# Altium footprint library K60-mainboard-v3.1.PcbLib: 108 footprints (part 1 of 7)
Each footprint in its own frame and in the unit in brackets; x right, y up, seen from the top. Pads: shape width x height; smd on the part's side, far side on the other; paste and mask are expansions set on the pad; w line width, h text height; cw(c..) or ccw(c..) is an arc to the next point about the centre after c.
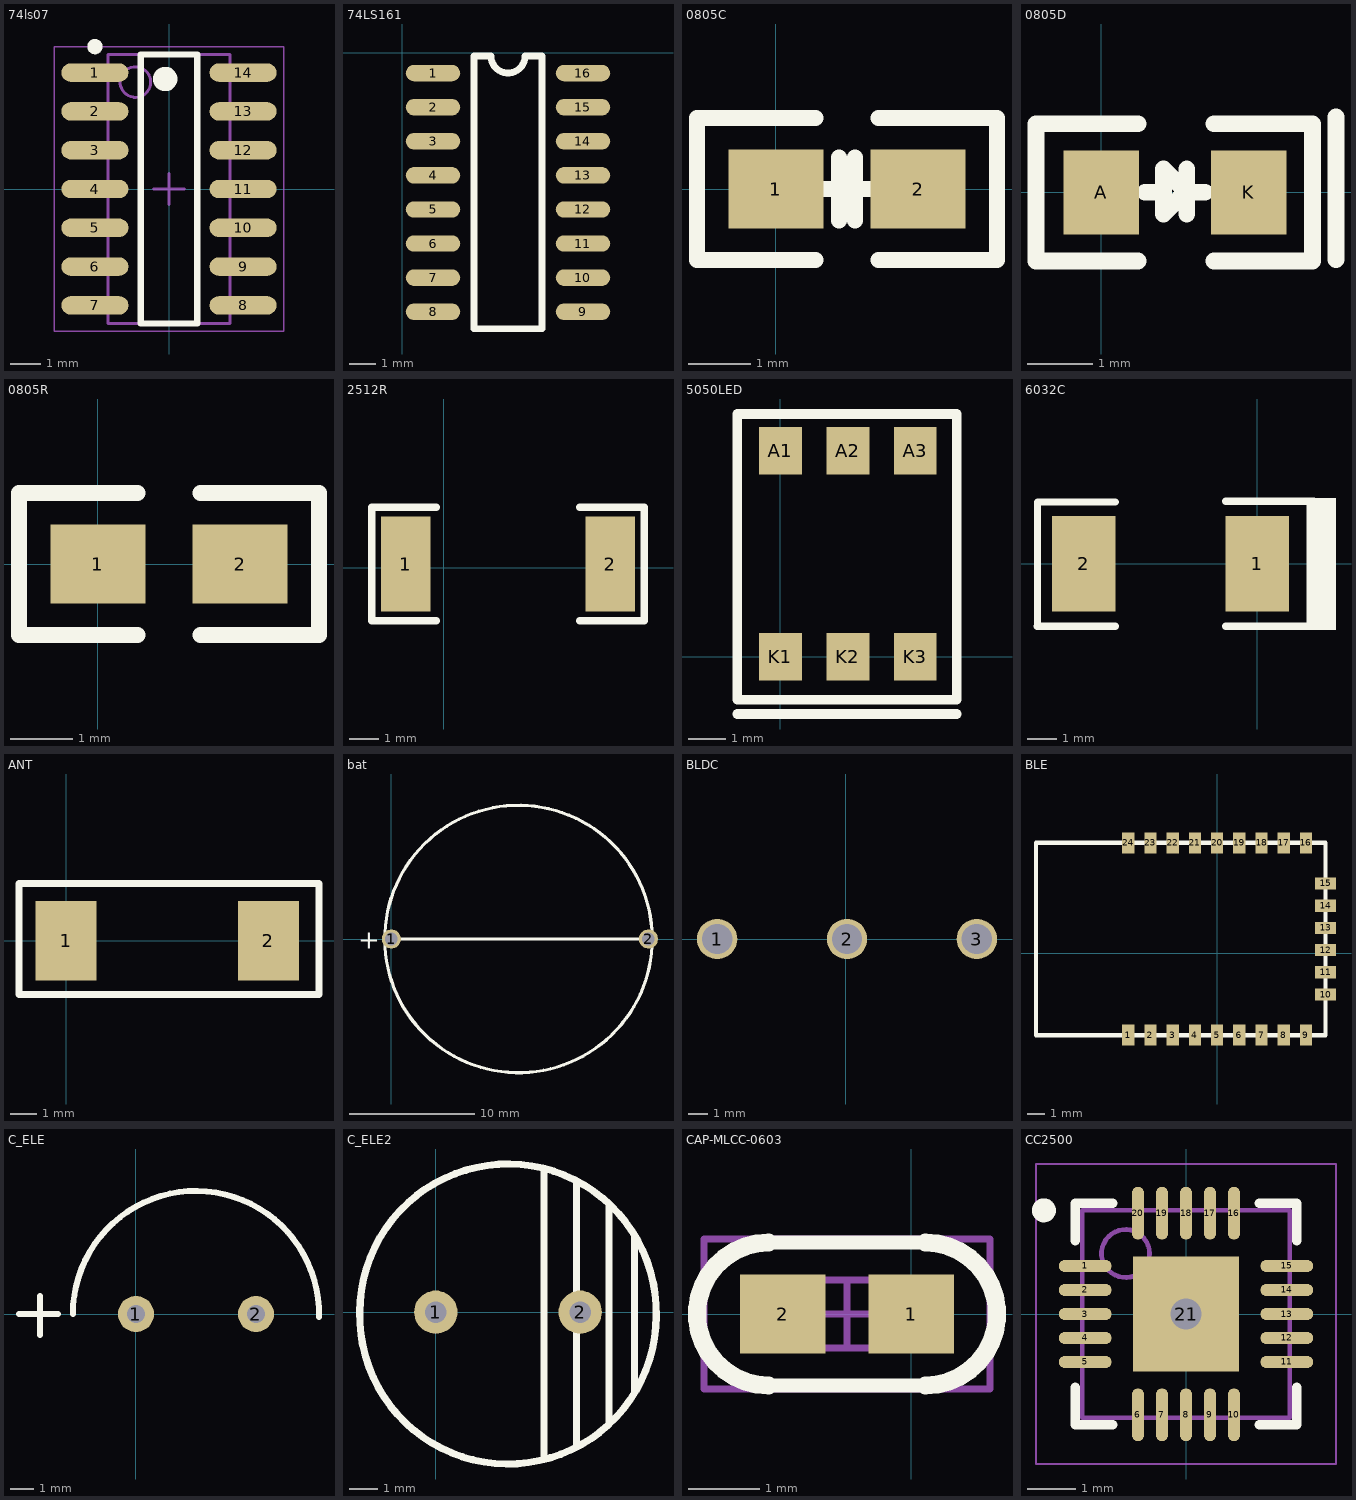
[diagram p0: the footprints below, top view; thin cyan lines are the x and y axes]

## 74ls07 [mm]
height 1.7
pads (14):
  oval 2.2x0.6 smd: 1(-2.425,3.81) 2(-2.425,2.54) 3(-2.425,1.27) 4(-2.425,0) 5(-2.425,-1.27) 6(-2.425,-2.54) 7(-2.425,-3.81) 8(2.425,-3.81) 9(2.425,-2.54) 10(2.425,-1.27) 11(2.425,0) 12(2.425,1.27) 13(2.425,2.54) 14(2.425,3.81)
Top Overlay:
  circle w0.4: c-0.125,3.6 r0.2
  circle w0.25: c-2.425,4.66 r0.125
  lines w0.2: -0.925,-4.4 0.925,-4.4 0.925,4.4 -0.925,4.4 -0.925,-4.4
Mechanical 13:
  circle w0.1: c-1.1,3.5 r0.5
  lines w0.1: -2,-4.4 2,-4.4 2,4.4 -2,4.4 -2,-4.4
Mechanical 15:
  lines w0.05: -3.75,-4.65 3.75,-4.65 3.75,4.65 -3.75,4.65 -3.75,-4.65
  lines w0.1: -0.5,0 0.5,0 ; 0,-0.5 0,0.5
3D body: height 1.7, standoff 0.1, extent -2,-4.4 2,4.4

## 74LS161 [mil]
pads (16):
  oval 80x24 smd: 1(45,-30) 2(45,-80) 3(45,-130) 4(45,-180) 5(45,-230) 6(45,-280) 7(45,-330) 8(45,-380) 9(265,-380) 10(265,-330) 11(265,-280) 12(265,-230) 13(265,-180) 14(265,-130) 15(265,-80) 16(265,-30)
Top Overlay:
  lines w10: 105,-405 205,-405 205,-5 180,-5 cw(c155,-5) 130,-5 105,-5 105,-405

## 0805C [mil]
height 270.08
pads (2):
  rect 60x50 smd: 1(0,0) 2(90,0)
Top Overlay:
  lines w10: 25,-45 -50,-45 -50,45 25,45 ; 30,0 40,0 ; 40,-20 40,20 ; 50,-20 50,20 ; 50,0 60,0 ; 65,-45 140,-45 140,45 65,45

## 0805D [mil]
height 270.08
pads (2):
  rect 45x50 smd: A(0,0) K(88,0)
Top Overlay:
  lines w10: 22,-41 -39,-41 -39,41 22,41 ; 26,0 36,0 ; 51,-13 51,14 ; 62,0 51,0 ; 67,-41 126,-41 126,41 67,41 ; 140,-40 140,45 ; 51,0 50,0 37,-13 37,14 51,0

## 0805R [mil]
height 69.29
pads (2):
  rect 60x50 smd: 1(0,0) 2(90,0)
Top Overlay:
  lines w10: 25,-45 -50,-45 -50,45 25,45 ; 65,-45 140,-45 140,45 65,45

## 2512R [mm]
pads (2):
  rect 1.65x3.2 smd: 1(-1.27,0.127) 2(5.588,0.127)
Top Overlay:
  lines w0.254: -0.254,-1.778 -2.413,-1.778 -2.413,2.032 -0.254,2.032 ; 4.572,-1.778 6.731,-1.778 6.731,2.032 4.572,2.032

## 5050LED [mm]
pads (6):
  rect 1.143x1.27 smd: A1(0,5.5) A2(1.8,5.5) A3(3.6,5.5) K1(0,0) K2(1.8,0) K3(3.6,0)
Top Overlay:
  lines w0.254: -1.143,-1.524 4.699,-1.524 ; -1.143,-1.143 4.699,-1.143 4.699,6.477 -1.143,6.477 -1.143,-1.143

## 6032C [mm]
pads (2):
  rect 2.2x3.3 smd: 1(0,0) 2(-6,0)
Top Overlay:
  rectangle: 1.703,-2.293 2.719,2.277
  lines w0.254: -7.605,-2.159 -4.905,-2.159 ; -7.6,-2.133 -7.6,2.133 -4.9,2.133 ; -1.095,-2.159 1.831,-2.159 ; -1.095,2.159 1.958,2.159

## ANT [mm]
pads (2):
  rect 2.3x3 smd: 1(0,0) 2(7.62,0)
Top Overlay:
  lines w0.254: -1.778,-2.032 -1.778,2.159 -0.508,2.159 9.525,2.159 9.525,-2.032 -1.778,-2.032

## bat [mil]
pads (2):
  round 60 hole 39.37: 1(0,0) 2(808.94,0)
Top Overlay:
  lines w10: 0,0 807.09,0 ; 820.71,5.01 ccw(c400,0) 820.74,0
  text "+" at -105,-30 h60

## BLDC [mil]
pads (3):
  round 80 hole 60: 1(-255,0) 2(2.5,0) 3(260,0)

## BLE [mm]
pads (24):
  rect 0.7x1.2 smd mask+0: 1(-5.08,-4.699) 2(-3.81,-4.699) 3(-2.54,-4.699) 4(-1.27,-4.699) 5(0,-4.699) 6(1.27,-4.699) 7(2.54,-4.699) 8(3.81,-4.699) 9(5.08,-4.699) 16(5.08,6.301) 17(3.81,6.301) 18(2.54,6.301) 19(1.27,6.301) 20(0,6.301) 21(-1.27,6.301) 22(-2.54,6.301) 23(-3.81,6.301) 24(-5.08,6.301)
  rect 1.2x0.7 smd mask+0: 10(6.198,-2.374) 11(6.198,-1.104) 12(6.198,0.166) 13(6.198,1.436) 14(6.198,2.706) 15(6.198,3.976)
Top Overlay:
  lines w0.254: -10.353,-4.699 -10.353,6.301 6.198,6.301 6.198,-4.699 -10.353,-4.699

## C_ELE [mil]
height 787.4
pads (2):
  round 60 hole 30: 1(0,0) 2(200,0)
Top Overlay:
  lines w10: -195,0 -130,0 ; -160,-35 -160,30 ; -105.18,0 cw(c100,0) 305.12,-5

## C_ELE2 [mil]
height 787.4
pads (2):
  round 60 hole 30: 1(0,0) 2(200,0)
Top Overlay:
  lines w10: -105.18,0 cw(c100,0) 305.12,-5 ; -105.12,0 ccw(c100,-5) 305.18,-5 ; 150,-200 150,195 ; 195,-185 195,180 ; 240,-155 240,150 ; 275,-110 275,105

## CAP-MLCC-0603 [mm]
pads (2):
  rect 1.2x1.1 smd: 1(0,0) 2(-1.8,0)
Top Overlay:
  lines w0.2: -2,-1 0.2,-1 ; -2,1 0.2,1
  lines w0.254: -2,-1 cw(c-2,0) -2,1 ; 0.2,-1 ccw(c0.2,0) 0.2,1
Mechanical 13:
  lines w0.1: -1.775,-0.475 -0.025,-0.475 -0.025,0.475 -1.775,0.475 -1.775,-0.475
Mechanical 15:
  lines w0.1: -1.375,0 -0.425,0 ; -0.9,-0.475 -0.9,0.475 ; -2.9,-1.05 1.1,-1.05 1.1,1.05 -2.9,1.05 -2.9,-1.05
3D body: height 0.85, standoff 0, extent -1.775,-0.475 -0.025,0.475

## CC2500 [mm] "QFN, 20-Leads, Body 4.32x4.32mm, Pitch 0.50mm, Thermal Pad 2.40x2.20mm, IPC Low Density"
height 0.8
pads (21):
  oval 1.1x0.25 smd: 1(-2.1,1) 2(-2.1,0.5) 3(-2.1,0) 4(-2.1,-0.5) 5(-2.1,-1) 11(2.1,-1) 12(2.1,-0.5) 13(2.1,0) 14(2.1,0.5) 15(2.1,1)
  oval 0.25x1.1 smd: 6(-1,-2.1) 7(-0.5,-2.1) 8(0,-2.1) 9(0.5,-2.1) 10(1,-2.1) 16(1,2.1) 17(0.5,2.1) 18(0,2.1) 19(-0.5,2.1) 20(-1,2.1)
  rect 2.2x2.4 smd: 21(0,0)
via 0,0 diameter 1.2 hole 0.65
Top Overlay:
  circle w0.25: c-2.96,2.16 r0.125
  lines w0.2: -2.31,-1.525 -2.31,-2.31 -1.525,-2.31 ; -2.31,1.525 -2.31,2.31 -1.525,2.31 ; 1.525,-2.31 2.31,-2.31 2.31,-1.525 ; 1.525,2.31 2.31,2.31 2.31,1.525
Mechanical 13:
  circle w0.1: c-1.26,1.26 r0.5
  lines w0.1: -2.16,-2.16 2.16,-2.16 2.16,2.16 -2.16,2.16 -2.16,-2.16
Mechanical 15:
  lines w0.05: -3.125,-3.125 3.125,-3.125 3.125,3.125 -3.125,3.125 -3.125,-3.125
  lines w0.1: -0.5,0 0.5,0 ; 0,-0.5 0,0.5
3D body: height 0.8, standoff 0.01, extent -2.16,-2.16 2.16,2.16